# Altium schematic symbol library 线对板线对线连接器.SchLib: 2 symbols
Pins are listed as number, name and electrical type; pins without a type are passive.

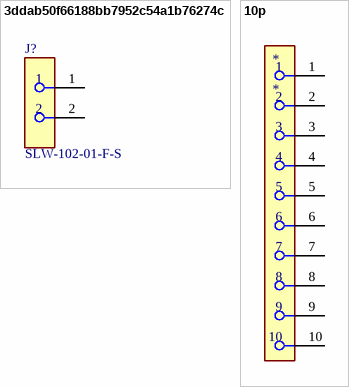
[diagram p0: symbols 3ddab50f66188bb7952c54a1b76274c to 10p]

## 3ddab50f66188bb7952c54a1b76274c
designator J?, comment SLW-102-01-F-S
CONN RCPT 2POS 0.1 GOLD PCB
footprint XH2.54-LI-2P (接插件，2P)
pins: 1, 2

## 10p
designator *
footprint XH2.54-WI-10P (接插件，10P)
pins: 1, 2, 3, 4, 5, 6, 7, 8, 9, 10